# Altium footprint library NexieSpecific.PcbLib: 11 footprints
Each footprint in its own frame and in the unit in brackets; x right, y up, seen from the top. Pads: shape width x height; smd on the part's side, far side on the other; paste and mask are expansions set on the pad; w line width, h text height; cw(c..) or ccw(c..) is an arc to the next point about the centre after c.
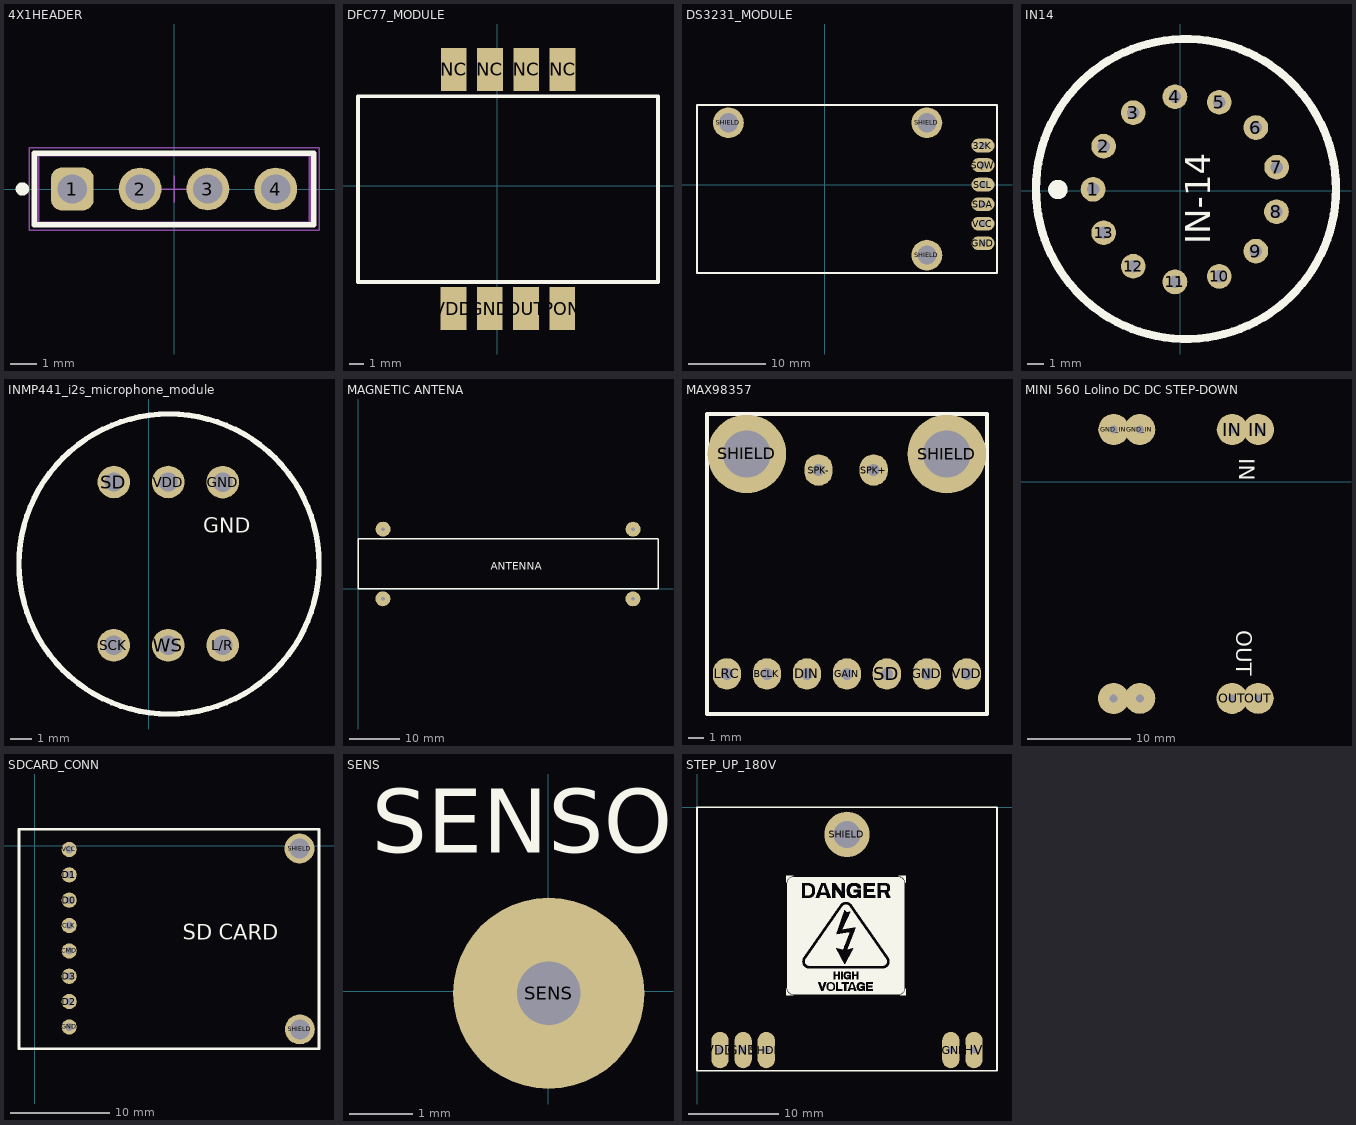
[diagram p0: the footprints below, top view; thin cyan lines are the x and y axes]

## 4X1HEADER [mm] "Pin Header, pitch 2.54 mm, THT, Vertical, single row, 4p"
height 8.54
pads (4):
  rrect50% 1.6x1.6 hole 1.1: 1(-3.81,0)
  round 1.6 hole 1.1: 2(-1.27,0) 3(1.27,0) 4(3.81,0)
Top Overlay:
  circle w0.25: c-5.68,0 r0.125
  lines w0.2: -5.23,-1.345 -5.23,1.345 5.23,1.345 5.23,-1.345 -5.23,-1.345
Top Designator:
  text ".Designator" at -7.498,-0.5 h1.5
Top Component Outline:
  lines w0.1: -5.08,-1.27 5.08,-1.27 5.08,1.27 -5.08,1.27 -5.08,-1.27
Top Courtyard:
  lines w0.05: -5.43,-1.545 5.43,-1.545 5.43,1.545 -5.43,1.545 -5.43,-1.545
Top Component Center:
  lines w0.05: -0.5,0 0.5,0 ; 0,-0.5 0,0.5
3D body "61300411121.stp": height 8.57, standoff -2.97, extent -5.08,-1.27 5.08,1.27

## DFC77_MODULE [mm] "Rdio time sync module"
pads (8):
  rect 1.8x3 smd: GND(-0.514,-8.595) NC(-3.041,8.14) NC(-0.501,8.14) NC(2.039,8.14) NC(4.579,8.14) OUT(2.026,-8.595) PON(4.566,-8.595) VDD(-3.054,-8.595)
Top Overlay:
  lines w0.254: -9.738,-6.742 -9.738,6.258 11.262,6.258 11.262,-6.742 -9.738,-6.742
3D body: height 4, standoff 0, extent -9.733,-6.748 11.267,6.277

## DS3231_MODULE [mm] "DS3231  / + / AT24C32"
pads (9):
  oval 3x1.8 hole 0.762: 32K(20.591,5.102) GND(20.591,-7.598) SCL(20.591,0.022) SDA(20.591,-2.518) SQW(20.591,2.562) VCC(20.591,-5.058)
  round 4 hole 2.5: SHIELD(-12.502,8.06) SHIELD(13.295,8.073) SHIELD(13.299,-9.142)
Top Overlay:
  lines w0.254: 22.412,10.284 22.412,-11.438 -16.593,-11.438 -16.593,10.349 22.412,10.349
3D body "DS3231 Timer Assembly.stp": height 16.63, standoff -1, extent -16.502,-11.437 21.838,10.363

## IN14 [mil]
pads (13):
  round 60 hole 30: 1(-212.2,3.54) 2(-186.61,108.27) 3(-114.57,189.76) 4(-13.39,228.35) 5(94.09,214.96) 6(183.07,153.54) 7(233.46,57.48) 8(233.07,-50.79) 9(183.07,-146.46) 10(94.09,-207.87) 11(-13.39,-221.26) 12(-114.57,-183.07) 13(-186.61,-101.97)
Top Overlay:
  circle w19.68: c13.39,4.33 r364.17
  circle w23.62: c-297.64,3.15 r11.81
  text "IN-14" at 71.89,-129.37 h60
3D body "NX-SZP-IN14-v01.STEP": height 2529.31, standoff -41.34, extent -340.55,-349.8 368.11,356.88

## INMP441_i2s_microphone_module [mil]
pads (6):
  round 60 hole 35.43: GND(135.68,655.13) L/R(135.76,355.45) SCK(-64.37,355.36) SD(-64.15,655.25) VDD(35.6,655.25) WS(35.72,355.39)
Top Overlay:
  circle w10: c37.05,504.7 r275.59
  text "GND" at 99.72,561.88 h27.56
3D body "INMP441 I2S Microphone Module v15.step": height 364.69, standoff -78.23, extent -244.56,234.34 316.07,776.3

## MAGNETIC ANTENA [mm]
pads (4):
  round 3 hole 0.762: SHIELD(4.976,-1.96) SHIELD(5.021,11.961) SHIELD(54.999,-1.967) SHIELD(55.044,11.953)
Top Overlay:
  lines w0.254: 0.023,0.005 60.023,0.005 60.023,10.005 ; 5,0 0,0 0,10 60,10
  text "ANTENNA" at 26.523,3.888 h1.52
3D body: height 13, standoff 3, extent 0,0.024 60.004,10.001

## MAX98357 [mm]
pads (11):
  oval 1.8x2 hole 0.762: BCLK(7.986,3.638) DIN(10.526,3.638) GAIN(13.066,3.638) GND(18.146,3.638) LRC(5.443,3.639) SD(15.601,3.638) SPK+(14.761,16.592) SPK-(11.263,16.592) VDD(20.683,3.638)
  round 5 hole 3: SHIELD(6.707,17.619) SHIELD(19.41,17.606)
Top Overlay:
  lines w0.254: 4.176,1.093 21.966,1.093 21.966,20.151 4.176,20.151 4.176,1.093
3D body "3006 MAX98357.step": height 2.57, standoff 0, extent 4.175,1.099 21.955,20.149

## MINI 560 Lolino DC DC STEP-DOWN [mm]
pads (8):
  round 3 hole 0.762: GND_IN(-32.561,5.049) GND_IN(-30.04,5.043) GND_OUT(-32.578,-20.96) GND_OUT(-30.038,-20.947) IN(-21.101,5.042) IN(-18.57,5.049) OUT(-21.12,-20.951) OUT(-18.588,-20.944)
Top Overlay:
  text "IN" at -20.421,2.278 h1.52
  text "OUT" at -20.697,-14.36 h1.52
3D body "MINI560_light.step": height 5.62, standoff 0, extent -34.574,-22.952 -16.574,7.048

## SDCARD_CONN [mil]
pads (10):
  round 60 hole 30: CLK(135.47,-313.84) CMD(135.47,-413.84) D0(135.47,-213.84) D1(135.47,-113.84) D2(135.47,-613.84) D3(135.47,-513.84) GND(135.47,-713.84) VCC(135.47,-13.84)
  round 118.11 hole 78.74: SHIELD(1043.99,-10.29) SHIELD(1045.2,-723.45)
Top Overlay:
  lines w10: -62.49,-800.02 -62.49,66.12 1118.87,66.12 ; -60.5,-799.94 1120.85,-799.95 1120.86,66.19
  text "SD CARD" at 582.95,-370.37 h60
3D body: height 196.85, standoff 78.74, extent -64.57,-797.59 1120.54,66.19

## SENS [mm]
pads (1):
  round 3 hole 1: SENS(0.007,-0.03)
Top Overlay:
  text "SENSOR" at -2.77,2.176 h1

## STEP_UP_180V [mm] "Step up adjustable converter"
pads (6):
  oval 1.9x4 hole 0.762: GND(5.08,-26.72) HGND(27.92,-26.72) HV(30.46,-26.72) SHDN(7.62,-26.72) VDD(2.54,-26.72)
  round 5 hole 3: SHIELD(16.5,-3)
Top Overlay:
  drawing of 15 lines, arcs and shapes, not listed
Bottom Overlay:
  drawing of 11 lines, arcs and shapes, not listed
3D body: height 9, standoff 0, extent -0.008,-29.036 32.999,0.013